# Altium integrated library TI Data Converters Digital to Analog Converter.IntLib: 1533 symbols (part 41 of 99)
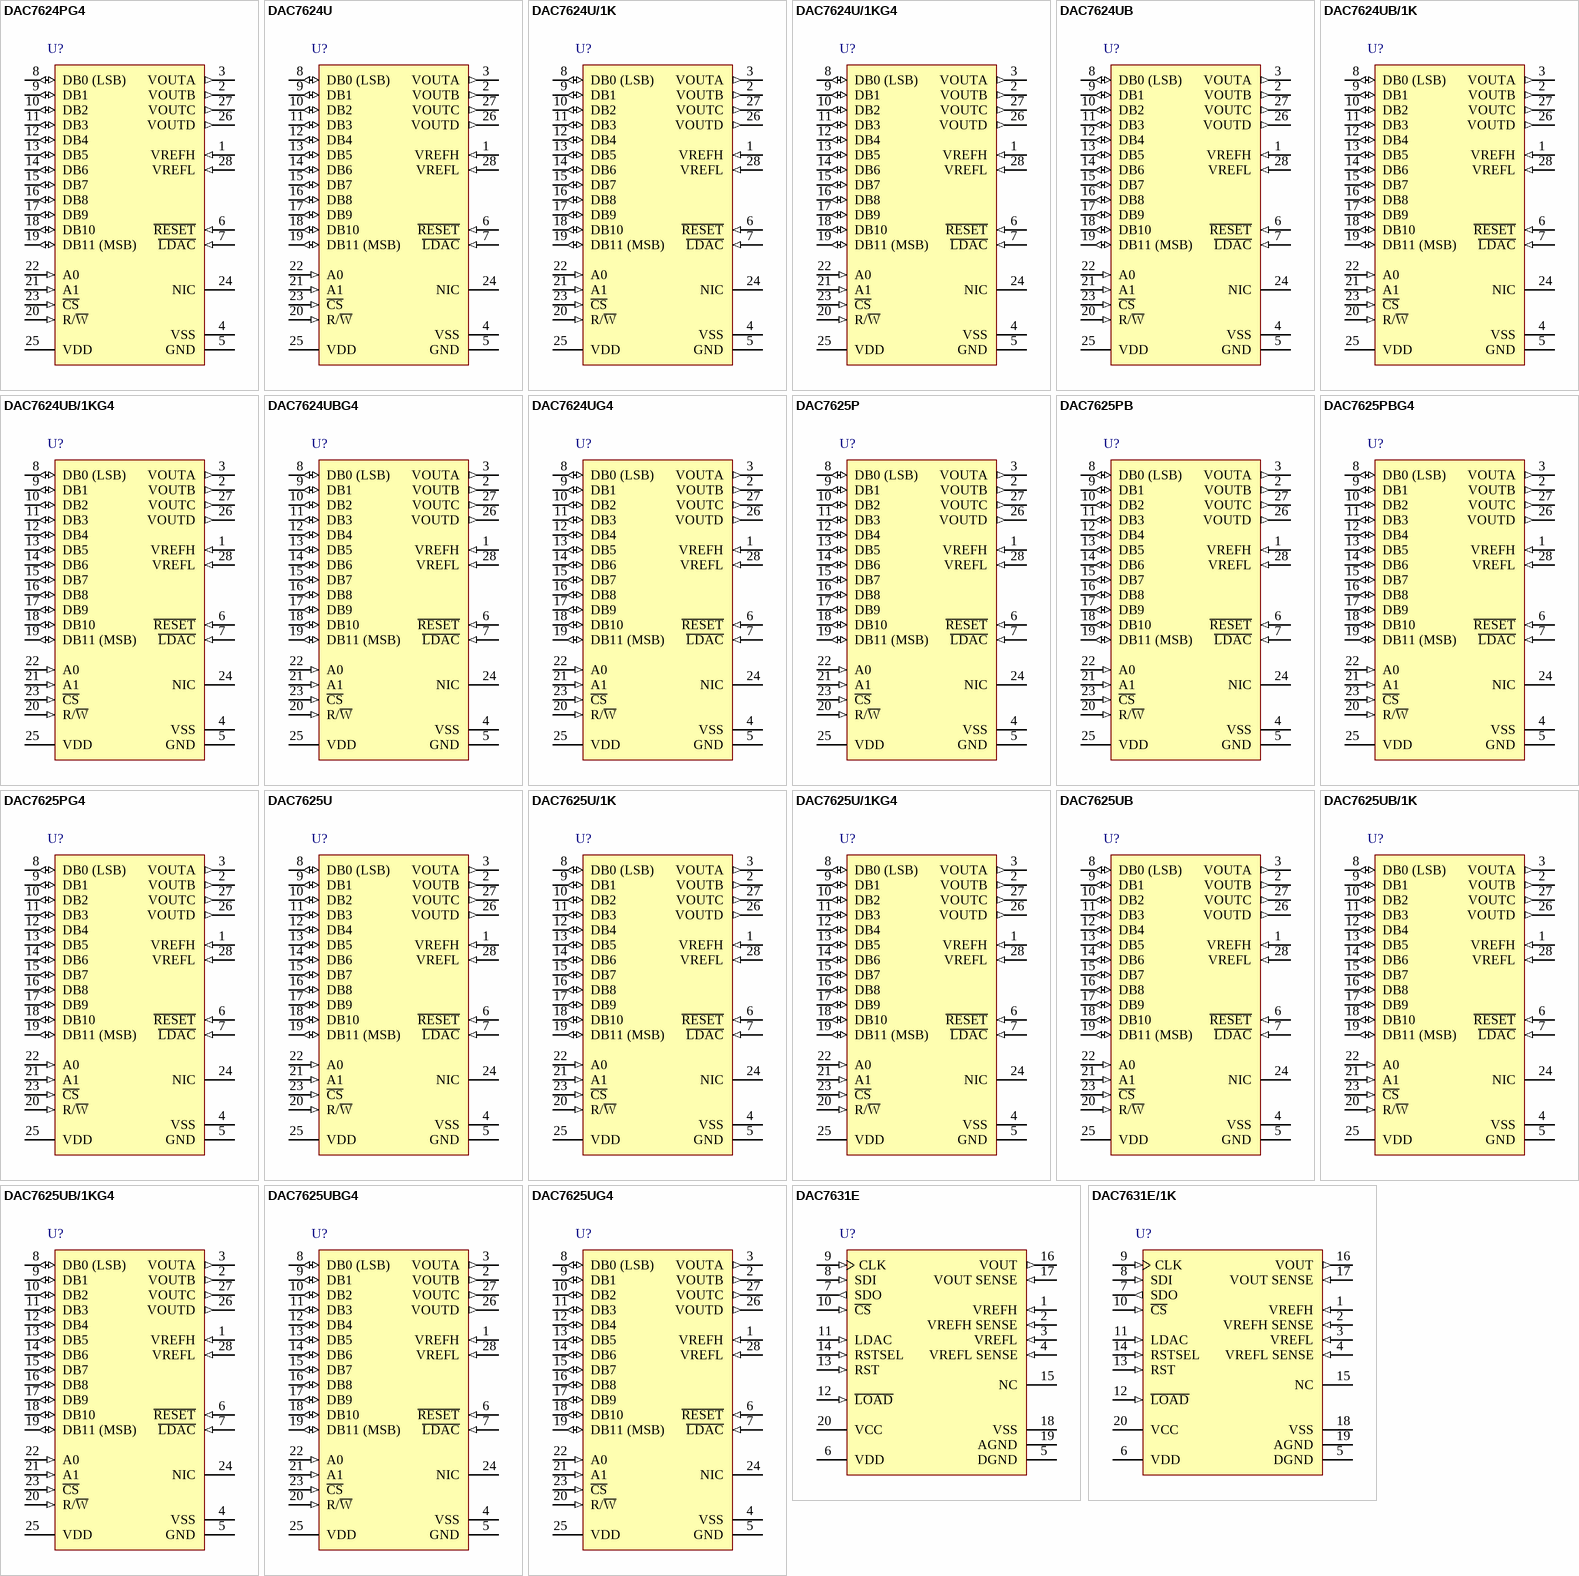
[diagram p113: symbols DAC7624PG4 to DAC7631E/1K]

## DAC7624UB/1K
designator U?
12-Bit Quad Voltage Output DAC, -40 to 85 degC, 28-pin SOIC (DW28), Green (RoHS & no Sb/Br); Manufacturer: Texas Instruments; PartNumber: DAC7624UB/1K; DAC Channels: 4; DNL(Max)(+/-LSB): 1; Interface: Parallel; Power Consumption(Typ)(mW): 15; Resolution(Bits): 12; Settling Time(us): 10; SubFamily: Precision DAC (=<10MSPS); DatasheetVersion: SBAS083; PackageVersion: 4040000-6/G, 01/2011; PackageReference: DW28; PackageDescription: 28-Pin Plastic Small Outline, Body 17.90 x 7.50 mm, Pitch 1.27 mm; Supplier 1: Digi-Key; Supplier Part Number 1: DAC7624UB/1K-ND; Supplier 2: Newark; Supplier Part Number 2: 74C9209; Supplier 3: Mouser; Supplier Part Number 3: 595-DAC7624UB/1K; Eco-Plan: Green (RoHS & no Sb/Br); INL(Max)(+/-LSB): 1; Mounting Technology: Surface Mount; Code_JEDEC: MS-013; ComponentLink1Description: Manufacturer URL; ComponentLink1URL: http://www.ti.com/; ComponentLink2Description: Datasheet; ComponentLink2URL: http://www.ti.com/general/docs/lit/getliterature.tsp?genericPartNumber=DAC7624&fileType=pdf; ComponentLink3Description: Package Specification; ComponentLink3URL: http://www.ti.com/lit/ml/mpds175a/mpds175a.pdf
footprint TI-DW28_N (SOIC, 28-Leads, Body 17.9x7.5mm, Pitch 1.27mm, IPC Medium Density)
footprint TI-DW28_L (SOIC, 28-Leads, Body 17.9x7.5mm, Pitch 1.27mm, IPC High Density)
footprint TI-DW28_M (SOIC, 28-Leads, Body 17.9x7.5mm, Pitch 1.27mm, IPC Low Density)
pins: 1 VREFH (in) "Reference Input Voltage High. Sets maximum output voltage for all DACs.", 2 VOUTB (out) "DAC B Voltage Output.", 3 VOUTA (out) "DAC A Voltage Output.", 4 VSS (power) "Negative Analog Supply Voltage, 0V or -5V.", 5 GND (power) "Ground.", 6 ~{RESET} (in) "Asynchronous Reset Input. Sets DAC and input registers to either mid-scale (800H, DAC7624) or zero-scale (000H, DAC7625) when LOW.", 7 ~{LDAC} (in) "Load DAC Input. All DAC Registers are transparent when LOW.", 8 DB0 (LSB) (io) "Data Bit 0. Least significant bit of 12-bit word.", 9 DB1 (io) "Data Bit 1", 10 DB2 (io) "Data Bit 2", 11 DB3 (io) "Data Bit 3", 12 DB4 (io) "Data Bit 4", 13 DB5 (io) "Data Bit 5", 14 DB6 (io) "Data Bit 6", 15 DB7 (io) "Data Bit 7", 16 DB8 (io) "Data Bit 8", 17 DB9 (io) "Data Bit 9", 18 DB10 (io) "Data Bit 10", 19 DB11 (MSB) (io) "Data Bit 11. Most significant bit of 12-bit word.", 20 R/~{W} (in) "Read/Write Control Input (read = HIGH, write = LOW).", 21 A1 (in) "Register/DAC Select (C or D = HIGH, A or B = LOW).", 22 A0 (in) "Register/DAC Select (B or D = HIGH, A or C = LOW).", 23 ~{CS} (in) "Chip Select Input.", 24 NIC "Not Internally Connected. Pin has no internal connection to the device.", 25 VDD (power) "Positive Analog Supply Voltage, +5V nominal.", 26 VOUTD (out) "DAC D Voltage Output.", 27 VOUTC (out) "DAC C Voltage Output.", 28 VREFL (in) "Reference Input Voltage Low. Sets minimum output voltage for all DACs."

## DAC7624UB/1KG4
designator U?
12-Bit Quad Voltage Output DAC, -40 to 85 degC, 28-pin SOIC (DW28), Green (RoHS & no Sb/Br); Manufacturer: Texas Instruments; PartNumber: DAC7624UB/1KG4; DAC Channels: 4; DNL(Max)(+/-LSB): 1; Interface: Parallel; Power Consumption(Typ)(mW): 15; Resolution(Bits): 12; Settling Time(us): 10; SubFamily: Precision DAC (=<10MSPS); DatasheetVersion: SBAS083; PackageVersion: 4040000-6/G, 01/2011; PackageReference: DW28; PackageDescription: 28-Pin Plastic Small Outline, Body 17.90 x 7.50 mm, Pitch 1.27 mm; Supplier 1: Digi-Key; Supplier Part Number 1: DAC7624UB/1KG4-ND; Supplier 2: Newark; Supplier Part Number 2: 14M1935; Supplier 3: Mouser; Supplier Part Number 3: 595-DAC7624UB/1KG4; Eco-Plan: Green (RoHS & no Sb/Br); INL(Max)(+/-LSB): 1; Mounting Technology: Surface Mount; Code_JEDEC: MS-013; ComponentLink1Description: Manufacturer URL; ComponentLink1URL: http://www.ti.com/; ComponentLink2Description: Datasheet; ComponentLink2URL: http://www.ti.com/general/docs/lit/getliterature.tsp?genericPartNumber=DAC7624&fileType=pdf; ComponentLink3Description: Package Specification; ComponentLink3URL: http://www.ti.com/lit/ml/mpds175a/mpds175a.pdf
footprint TI-DW28_N (SOIC, 28-Leads, Body 17.9x7.5mm, Pitch 1.27mm, IPC Medium Density)
footprint TI-DW28_L (SOIC, 28-Leads, Body 17.9x7.5mm, Pitch 1.27mm, IPC High Density)
footprint TI-DW28_M (SOIC, 28-Leads, Body 17.9x7.5mm, Pitch 1.27mm, IPC Low Density)
pins: 1 VREFH (in) "Reference Input Voltage High. Sets maximum output voltage for all DACs.", 2 VOUTB (out) "DAC B Voltage Output.", 3 VOUTA (out) "DAC A Voltage Output.", 4 VSS (power) "Negative Analog Supply Voltage, 0V or -5V.", 5 GND (power) "Ground.", 6 ~{RESET} (in) "Asynchronous Reset Input. Sets DAC and input registers to either mid-scale (800H, DAC7624) or zero-scale (000H, DAC7625) when LOW.", 7 ~{LDAC} (in) "Load DAC Input. All DAC Registers are transparent when LOW.", 8 DB0 (LSB) (io) "Data Bit 0. Least significant bit of 12-bit word.", 9 DB1 (io) "Data Bit 1", 10 DB2 (io) "Data Bit 2", 11 DB3 (io) "Data Bit 3", 12 DB4 (io) "Data Bit 4", 13 DB5 (io) "Data Bit 5", 14 DB6 (io) "Data Bit 6", 15 DB7 (io) "Data Bit 7", 16 DB8 (io) "Data Bit 8", 17 DB9 (io) "Data Bit 9", 18 DB10 (io) "Data Bit 10", 19 DB11 (MSB) (io) "Data Bit 11. Most significant bit of 12-bit word.", 20 R/~{W} (in) "Read/Write Control Input (read = HIGH, write = LOW).", 21 A1 (in) "Register/DAC Select (C or D = HIGH, A or B = LOW).", 22 A0 (in) "Register/DAC Select (B or D = HIGH, A or C = LOW).", 23 ~{CS} (in) "Chip Select Input.", 24 NIC "Not Internally Connected. Pin has no internal connection to the device.", 25 VDD (power) "Positive Analog Supply Voltage, +5V nominal.", 26 VOUTD (out) "DAC D Voltage Output.", 27 VOUTC (out) "DAC C Voltage Output.", 28 VREFL (in) "Reference Input Voltage Low. Sets minimum output voltage for all DACs."

## DAC7624UBG4
designator U?
12-Bit Quad Voltage Output DAC, -40 to 85 degC, 28-pin SOIC (DW28), Green (RoHS & no Sb/Br); Manufacturer: Texas Instruments; PartNumber: DAC7624UBG4; DAC Channels: 4; DNL(Max)(+/-LSB): 1; Interface: Parallel; Power Consumption(Typ)(mW): 15; Resolution(Bits): 12; Settling Time(us): 10; SubFamily: Precision DAC (=<10MSPS); DatasheetVersion: SBAS083; PackageVersion: 4040000-6/G, 01/2011; PackageReference: DW28; PackageDescription: 28-Pin Plastic Small Outline, Body 17.90 x 7.50 mm, Pitch 1.27 mm; Supplier 1: Digi-Key; Supplier Part Number 1: DAC7624UBG4-ND; Supplier 2: Newark; Supplier Part Number 2: 88K3813; Supplier 3: Mouser; Supplier Part Number 3: 595-DAC7624UBG4; Eco-Plan: Green (RoHS & no Sb/Br); INL(Max)(+/-LSB): 1; Mounting Technology: Surface Mount; Code_JEDEC: MS-013; ComponentLink1Description: Manufacturer URL; ComponentLink1URL: http://www.ti.com/; ComponentLink2Description: Datasheet; ComponentLink2URL: http://www.ti.com/general/docs/lit/getliterature.tsp?genericPartNumber=DAC7624&fileType=pdf; ComponentLink3Description: Package Specification; ComponentLink3URL: http://www.ti.com/lit/ml/mpds175a/mpds175a.pdf
footprint TI-DW28_N (SOIC, 28-Leads, Body 17.9x7.5mm, Pitch 1.27mm, IPC Medium Density)
footprint TI-DW28_L (SOIC, 28-Leads, Body 17.9x7.5mm, Pitch 1.27mm, IPC High Density)
footprint TI-DW28_M (SOIC, 28-Leads, Body 17.9x7.5mm, Pitch 1.27mm, IPC Low Density)
pins: 1 VREFH (in) "Reference Input Voltage High. Sets maximum output voltage for all DACs.", 2 VOUTB (out) "DAC B Voltage Output.", 3 VOUTA (out) "DAC A Voltage Output.", 4 VSS (power) "Negative Analog Supply Voltage, 0V or -5V.", 5 GND (power) "Ground.", 6 ~{RESET} (in) "Asynchronous Reset Input. Sets DAC and input registers to either mid-scale (800H, DAC7624) or zero-scale (000H, DAC7625) when LOW.", 7 ~{LDAC} (in) "Load DAC Input. All DAC Registers are transparent when LOW.", 8 DB0 (LSB) (io) "Data Bit 0. Least significant bit of 12-bit word.", 9 DB1 (io) "Data Bit 1", 10 DB2 (io) "Data Bit 2", 11 DB3 (io) "Data Bit 3", 12 DB4 (io) "Data Bit 4", 13 DB5 (io) "Data Bit 5", 14 DB6 (io) "Data Bit 6", 15 DB7 (io) "Data Bit 7", 16 DB8 (io) "Data Bit 8", 17 DB9 (io) "Data Bit 9", 18 DB10 (io) "Data Bit 10", 19 DB11 (MSB) (io) "Data Bit 11. Most significant bit of 12-bit word.", 20 R/~{W} (in) "Read/Write Control Input (read = HIGH, write = LOW).", 21 A1 (in) "Register/DAC Select (C or D = HIGH, A or B = LOW).", 22 A0 (in) "Register/DAC Select (B or D = HIGH, A or C = LOW).", 23 ~{CS} (in) "Chip Select Input.", 24 NIC "Not Internally Connected. Pin has no internal connection to the device.", 25 VDD (power) "Positive Analog Supply Voltage, +5V nominal.", 26 VOUTD (out) "DAC D Voltage Output.", 27 VOUTC (out) "DAC C Voltage Output.", 28 VREFL (in) "Reference Input Voltage Low. Sets minimum output voltage for all DACs."

## DAC7624UG4
designator U?
12-Bit Quad Voltage Output DAC, -40 to 85 degC, 28-pin SOIC (DW28), Green (RoHS & no Sb/Br); Manufacturer: Texas Instruments; PartNumber: DAC7624UG4; DAC Channels: 4; DNL(Max)(+/-LSB): 1; INL(Max)(+/-LSB): 2; Interface: Parallel; Power Consumption(Typ)(mW): 15; Resolution(Bits): 12; Settling Time(us): 10; SubFamily: Precision DAC (=<10MSPS); DatasheetVersion: SBAS083; PackageVersion: 4040000-6/G, 01/2011; PackageReference: DW28; PackageDescription: 28-Pin Plastic Small Outline, Body 17.90 x 7.50 mm, Pitch 1.27 mm; Supplier 1: Digi-Key; Supplier Part Number 1: DAC7624UG4-ND; Supplier 2: Newark; Supplier Part Number 2: 14M1936; Supplier 3: Mouser; Supplier Part Number 3: 595-DAC7624UG4; Eco-Plan: Green (RoHS & no Sb/Br); Mounting Technology: Surface Mount; Code_JEDEC: MS-013; ComponentLink1Description: Manufacturer URL; ComponentLink1URL: http://www.ti.com/; ComponentLink2Description: Datasheet; ComponentLink2URL: http://www.ti.com/general/docs/lit/getliterature.tsp?genericPartNumber=DAC7624&fileType=pdf; ComponentLink3Description: Package Specification; ComponentLink3URL: http://www.ti.com/lit/ml/mpds175a/mpds175a.pdf
footprint TI-DW28_N (SOIC, 28-Leads, Body 17.9x7.5mm, Pitch 1.27mm, IPC Medium Density)
footprint TI-DW28_L (SOIC, 28-Leads, Body 17.9x7.5mm, Pitch 1.27mm, IPC High Density)
footprint TI-DW28_M (SOIC, 28-Leads, Body 17.9x7.5mm, Pitch 1.27mm, IPC Low Density)
pins: 1 VREFH (in) "Reference Input Voltage High. Sets maximum output voltage for all DACs.", 2 VOUTB (out) "DAC B Voltage Output.", 3 VOUTA (out) "DAC A Voltage Output.", 4 VSS (power) "Negative Analog Supply Voltage, 0V or -5V.", 5 GND (power) "Ground.", 6 ~{RESET} (in) "Asynchronous Reset Input. Sets DAC and input registers to either mid-scale (800H, DAC7624) or zero-scale (000H, DAC7625) when LOW.", 7 ~{LDAC} (in) "Load DAC Input. All DAC Registers are transparent when LOW.", 8 DB0 (LSB) (io) "Data Bit 0. Least significant bit of 12-bit word.", 9 DB1 (io) "Data Bit 1", 10 DB2 (io) "Data Bit 2", 11 DB3 (io) "Data Bit 3", 12 DB4 (io) "Data Bit 4", 13 DB5 (io) "Data Bit 5", 14 DB6 (io) "Data Bit 6", 15 DB7 (io) "Data Bit 7", 16 DB8 (io) "Data Bit 8", 17 DB9 (io) "Data Bit 9", 18 DB10 (io) "Data Bit 10", 19 DB11 (MSB) (io) "Data Bit 11. Most significant bit of 12-bit word.", 20 R/~{W} (in) "Read/Write Control Input (read = HIGH, write = LOW).", 21 A1 (in) "Register/DAC Select (C or D = HIGH, A or B = LOW).", 22 A0 (in) "Register/DAC Select (B or D = HIGH, A or C = LOW).", 23 ~{CS} (in) "Chip Select Input.", 24 NIC "Not Internally Connected. Pin has no internal connection to the device.", 25 VDD (power) "Positive Analog Supply Voltage, +5V nominal.", 26 VOUTD (out) "DAC D Voltage Output.", 27 VOUTC (out) "DAC C Voltage Output.", 28 VREFL (in) "Reference Input Voltage Low. Sets minimum output voltage for all DACs."

## DAC7625P
designator U?
12-Bit Quad Voltage Output DAC, -40 to 85 degC, 28-pin DIP (NTD28), Green (RoHS & no Sb/Br); Manufacturer: Texas Instruments; PartNumber: DAC7625P; DAC Channels: 4; DNL(Max)(+/-LSB): 1; INL(Max)(+/-LSB): 2; Interface: Parallel; Power Consumption(Typ)(mW): 15; Resolution(Bits): 12; Settling Time(us): 10; SubFamily: Precision DAC (=<10MSPS); DatasheetVersion: SBAS083; PackageVersion: 4202496/A, 03/2001; PackageReference: NTD28; PackageDescription: 28-Pin Plastic Dual-In-Line, Body 37.4 x 13.525 mm, Pitch 2.54 mm; Supplier 1: Digi-Key; Supplier Part Number 1: DAC7625P-ND; Supplier 2: Farnell; Supplier Part Number 2: 1214358; Supplier 3: Newark; Supplier Part Number 3: 01M7298; Supplier 4: Mouser; Supplier Part Number 4: 595-DAC7625P; Eco-Plan: Green (RoHS & no Sb/Br); Mounting Technology: Through Hole; Code_JEDEC: MS-011-AB; ComponentLink1Description: Manufacturer URL; ComponentLink1URL: http://www.ti.com/; ComponentLink2Description: Datasheet; ComponentLink2URL: http://www.ti.com/general/docs/lit/getliterature.tsp?genericPartNumber=DAC7625&fileType=pdf; ComponentLink3Description: Package Specification; ComponentLink3URL: http://www.ti.com/litv/pdf/mpdi056
footprint TI-NTD28 (DIP, 28-Leads, Body 37.4x13.525mm, Pitch 2.54mm)
pins: 1 VREFH (in) "Reference Input Voltage High. Sets maximum output voltage for all DACs.", 2 VOUTB (out) "DAC B Voltage Output.", 3 VOUTA (out) "DAC A Voltage Output.", 4 VSS (power) "Negative Analog Supply Voltage, 0V or -5V.", 5 GND (power) "Ground.", 6 ~{RESET} (in) "Asynchronous Reset Input. Sets DAC and input registers to either mid-scale (800H, DAC7624) or zero-scale (000H, DAC7625) when LOW.", 7 ~{LDAC} (in) "Load DAC Input. All DAC Registers are transparent when LOW.", 8 DB0 (LSB) (io) "Data Bit 0. Least significant bit of 12-bit word.", 9 DB1 (io) "Data Bit 1", 10 DB2 (io) "Data Bit 2", 11 DB3 (io) "Data Bit 3", 12 DB4 (io) "Data Bit 4", 13 DB5 (io) "Data Bit 5", 14 DB6 (io) "Data Bit 6", 15 DB7 (io) "Data Bit 7", 16 DB8 (io) "Data Bit 8", 17 DB9 (io) "Data Bit 9", 18 DB10 (io) "Data Bit 10", 19 DB11 (MSB) (io) "Data Bit 11. Most significant bit of 12-bit word.", 20 R/~{W} (in) "Read/Write Control Input (read = HIGH, write = LOW).", 21 A1 (in) "Register/DAC Select (C or D = HIGH, A or B = LOW).", 22 A0 (in) "Register/DAC Select (B or D = HIGH, A or C = LOW).", 23 ~{CS} (in) "Chip Select Input.", 24 NIC "Not Internally Connected. Pin has no internal connection to the device.", 25 VDD (power) "Positive Analog Supply Voltage, +5V nominal.", 26 VOUTD (out) "DAC D Voltage Output.", 27 VOUTC (out) "DAC C Voltage Output.", 28 VREFL (in) "Reference Input Voltage Low. Sets minimum output voltage for all DACs."

## DAC7625PB
designator U?
12-Bit Quad Voltage Output DAC, -40 to 85 degC, 28-pin DIP (NTD28), Green (RoHS & no Sb/Br); Manufacturer: Texas Instruments; PartNumber: DAC7625PB; DAC Channels: 4; DNL(Max)(+/-LSB): 1; Interface: Parallel; Power Consumption(Typ)(mW): 15; Resolution(Bits): 12; Settling Time(us): 10; SubFamily: Precision DAC (=<10MSPS); DatasheetVersion: SBAS083; PackageVersion: 4202496/A, 03/2001; PackageReference: NTD28; PackageDescription: 28-Pin Plastic Dual-In-Line, Body 37.4 x 13.525 mm, Pitch 2.54 mm; Supplier 1: Digi-Key; Supplier Part Number 1: DAC7625PB-ND; Supplier 2: Mouser; Supplier Part Number 2: 595-DAC7625PB; Eco-Plan: Green (RoHS & no Sb/Br); INL(Max)(+/-LSB): 1; Mounting Technology: Through Hole; Code_JEDEC: MS-011-AB; ComponentLink1Description: Manufacturer URL; ComponentLink1URL: http://www.ti.com/; ComponentLink2Description: Datasheet; ComponentLink2URL: http://www.ti.com/general/docs/lit/getliterature.tsp?genericPartNumber=DAC7625&fileType=pdf; ComponentLink3Description: Package Specification; ComponentLink3URL: http://www.ti.com/litv/pdf/mpdi056
footprint TI-NTD28 (DIP, 28-Leads, Body 37.4x13.525mm, Pitch 2.54mm)
pins: 1 VREFH (in) "Reference Input Voltage High. Sets maximum output voltage for all DACs.", 2 VOUTB (out) "DAC B Voltage Output.", 3 VOUTA (out) "DAC A Voltage Output.", 4 VSS (power) "Negative Analog Supply Voltage, 0V or -5V.", 5 GND (power) "Ground.", 6 ~{RESET} (in) "Asynchronous Reset Input. Sets DAC and input registers to either mid-scale (800H, DAC7624) or zero-scale (000H, DAC7625) when LOW.", 7 ~{LDAC} (in) "Load DAC Input. All DAC Registers are transparent when LOW.", 8 DB0 (LSB) (io) "Data Bit 0. Least significant bit of 12-bit word.", 9 DB1 (io) "Data Bit 1", 10 DB2 (io) "Data Bit 2", 11 DB3 (io) "Data Bit 3", 12 DB4 (io) "Data Bit 4", 13 DB5 (io) "Data Bit 5", 14 DB6 (io) "Data Bit 6", 15 DB7 (io) "Data Bit 7", 16 DB8 (io) "Data Bit 8", 17 DB9 (io) "Data Bit 9", 18 DB10 (io) "Data Bit 10", 19 DB11 (MSB) (io) "Data Bit 11. Most significant bit of 12-bit word.", 20 R/~{W} (in) "Read/Write Control Input (read = HIGH, write = LOW).", 21 A1 (in) "Register/DAC Select (C or D = HIGH, A or B = LOW).", 22 A0 (in) "Register/DAC Select (B or D = HIGH, A or C = LOW).", 23 ~{CS} (in) "Chip Select Input.", 24 NIC "Not Internally Connected. Pin has no internal connection to the device.", 25 VDD (power) "Positive Analog Supply Voltage, +5V nominal.", 26 VOUTD (out) "DAC D Voltage Output.", 27 VOUTC (out) "DAC C Voltage Output.", 28 VREFL (in) "Reference Input Voltage Low. Sets minimum output voltage for all DACs."

## DAC7625PBG4
designator U?
12-Bit Quad Voltage Output DAC, -40 to 85 degC, 28-pin DIP (NTD28), Green (RoHS & no Sb/Br); Manufacturer: Texas Instruments; PartNumber: DAC7625PBG4; DAC Channels: 4; DNL(Max)(+/-LSB): 1; Interface: Parallel; Power Consumption(Typ)(mW): 15; Resolution(Bits): 12; Settling Time(us): 10; SubFamily: Precision DAC (=<10MSPS); DatasheetVersion: SBAS083; PackageVersion: 4202496/A, 03/2001; PackageReference: NTD28; PackageDescription: 28-Pin Plastic Dual-In-Line, Body 37.4 x 13.525 mm, Pitch 2.54 mm; Supplier 1: Digi-Key; Supplier Part Number 1: DAC7625PBG4-ND; Supplier 2: Newark; Supplier Part Number 2: 60M1639; Supplier 3: Mouser; Supplier Part Number 3: 595-DAC7625PBG4; Eco-Plan: Green (RoHS & no Sb/Br); INL(Max)(+/-LSB): 1; Mounting Technology: Through Hole; Code_JEDEC: MS-011-AB; ComponentLink1Description: Manufacturer URL; ComponentLink1URL: http://www.ti.com/; ComponentLink2Description: Datasheet; ComponentLink2URL: http://www.ti.com/general/docs/lit/getliterature.tsp?genericPartNumber=DAC7625&fileType=pdf; ComponentLink3Description: Package Specification; ComponentLink3URL: http://www.ti.com/litv/pdf/mpdi056
footprint TI-NTD28 (DIP, 28-Leads, Body 37.4x13.525mm, Pitch 2.54mm)
pins: 1 VREFH (in) "Reference Input Voltage High. Sets maximum output voltage for all DACs.", 2 VOUTB (out) "DAC B Voltage Output.", 3 VOUTA (out) "DAC A Voltage Output.", 4 VSS (power) "Negative Analog Supply Voltage, 0V or -5V.", 5 GND (power) "Ground.", 6 ~{RESET} (in) "Asynchronous Reset Input. Sets DAC and input registers to either mid-scale (800H, DAC7624) or zero-scale (000H, DAC7625) when LOW.", 7 ~{LDAC} (in) "Load DAC Input. All DAC Registers are transparent when LOW.", 8 DB0 (LSB) (io) "Data Bit 0. Least significant bit of 12-bit word.", 9 DB1 (io) "Data Bit 1", 10 DB2 (io) "Data Bit 2", 11 DB3 (io) "Data Bit 3", 12 DB4 (io) "Data Bit 4", 13 DB5 (io) "Data Bit 5", 14 DB6 (io) "Data Bit 6", 15 DB7 (io) "Data Bit 7", 16 DB8 (io) "Data Bit 8", 17 DB9 (io) "Data Bit 9", 18 DB10 (io) "Data Bit 10", 19 DB11 (MSB) (io) "Data Bit 11. Most significant bit of 12-bit word.", 20 R/~{W} (in) "Read/Write Control Input (read = HIGH, write = LOW).", 21 A1 (in) "Register/DAC Select (C or D = HIGH, A or B = LOW).", 22 A0 (in) "Register/DAC Select (B or D = HIGH, A or C = LOW).", 23 ~{CS} (in) "Chip Select Input.", 24 NIC "Not Internally Connected. Pin has no internal connection to the device.", 25 VDD (power) "Positive Analog Supply Voltage, +5V nominal.", 26 VOUTD (out) "DAC D Voltage Output.", 27 VOUTC (out) "DAC C Voltage Output.", 28 VREFL (in) "Reference Input Voltage Low. Sets minimum output voltage for all DACs."

## DAC7625PG4
designator U?
12-Bit Quad Voltage Output DAC, -40 to 85 degC, 28-pin DIP (NTD28), Green (RoHS & no Sb/Br); Manufacturer: Texas Instruments; PartNumber: DAC7625PG4; DAC Channels: 4; DNL(Max)(+/-LSB): 1; INL(Max)(+/-LSB): 2; Interface: Parallel; Power Consumption(Typ)(mW): 15; Resolution(Bits): 12; Settling Time(us): 10; SubFamily: Precision DAC (=<10MSPS); DatasheetVersion: SBAS083; PackageVersion: 4202496/A, 03/2001; PackageReference: NTD28; PackageDescription: 28-Pin Plastic Dual-In-Line, Body 37.4 x 13.525 mm, Pitch 2.54 mm; Supplier 1: Digi-Key; Supplier Part Number 1: DAC7625PG4-ND; Supplier 2: Mouser; Supplier Part Number 2: 595-DAC7625PG4; Eco-Plan: Green (RoHS & no Sb/Br); Mounting Technology: Through Hole; Code_JEDEC: MS-011-AB; ComponentLink1Description: Manufacturer URL; ComponentLink1URL: http://www.ti.com/; ComponentLink2Description: Datasheet; ComponentLink2URL: http://www.ti.com/general/docs/lit/getliterature.tsp?genericPartNumber=DAC7625&fileType=pdf; ComponentLink3Description: Package Specification; ComponentLink3URL: http://www.ti.com/litv/pdf/mpdi056
footprint TI-NTD28 (DIP, 28-Leads, Body 37.4x13.525mm, Pitch 2.54mm)
pins: 1 VREFH (in) "Reference Input Voltage High. Sets maximum output voltage for all DACs.", 2 VOUTB (out) "DAC B Voltage Output.", 3 VOUTA (out) "DAC A Voltage Output.", 4 VSS (power) "Negative Analog Supply Voltage, 0V or -5V.", 5 GND (power) "Ground.", 6 ~{RESET} (in) "Asynchronous Reset Input. Sets DAC and input registers to either mid-scale (800H, DAC7624) or zero-scale (000H, DAC7625) when LOW.", 7 ~{LDAC} (in) "Load DAC Input. All DAC Registers are transparent when LOW.", 8 DB0 (LSB) (io) "Data Bit 0. Least significant bit of 12-bit word.", 9 DB1 (io) "Data Bit 1", 10 DB2 (io) "Data Bit 2", 11 DB3 (io) "Data Bit 3", 12 DB4 (io) "Data Bit 4", 13 DB5 (io) "Data Bit 5", 14 DB6 (io) "Data Bit 6", 15 DB7 (io) "Data Bit 7", 16 DB8 (io) "Data Bit 8", 17 DB9 (io) "Data Bit 9", 18 DB10 (io) "Data Bit 10", 19 DB11 (MSB) (io) "Data Bit 11. Most significant bit of 12-bit word.", 20 R/~{W} (in) "Read/Write Control Input (read = HIGH, write = LOW).", 21 A1 (in) "Register/DAC Select (C or D = HIGH, A or B = LOW).", 22 A0 (in) "Register/DAC Select (B or D = HIGH, A or C = LOW).", 23 ~{CS} (in) "Chip Select Input.", 24 NIC "Not Internally Connected. Pin has no internal connection to the device.", 25 VDD (power) "Positive Analog Supply Voltage, +5V nominal.", 26 VOUTD (out) "DAC D Voltage Output.", 27 VOUTC (out) "DAC C Voltage Output.", 28 VREFL (in) "Reference Input Voltage Low. Sets minimum output voltage for all DACs."

## DAC7625U
designator U?
12-Bit Quad Voltage Output DAC, -40 to 85 degC, 28-pin SOIC (DW28), Green (RoHS & no Sb/Br); Manufacturer: Texas Instruments; PartNumber: DAC7625U; DAC Channels: 4; DNL(Max)(+/-LSB): 1; INL(Max)(+/-LSB): 2; Interface: Parallel; Power Consumption(Typ)(mW): 15; Resolution(Bits): 12; Settling Time(us): 10; SubFamily: Precision DAC (=<10MSPS); DatasheetVersion: SBAS083; PackageVersion: 4040000-6/G, 01/2011; PackageReference: DW28; PackageDescription: 28-Pin Plastic Small Outline, Body 17.90 x 7.50 mm, Pitch 1.27 mm; Supplier 1: Digi-Key; Supplier Part Number 1: DAC7625U-ND; Supplier 2: Farnell; Supplier Part Number 2: 1212273; Supplier 3: Newark; Supplier Part Number 3: 01M7299; Supplier 4: Newark; Supplier Part Number 4: 35C1641; Supplier 5: Mouser; Supplier Part Number 5: 595-DAC7625U; Eco-Plan: Green (RoHS & no Sb/Br); Mounting Technology: Surface Mount; Code_JEDEC: MS-013; ComponentLink1Description: Manufacturer URL; ComponentLink1URL: http://www.ti.com/; ComponentLink2Description: Datasheet; ComponentLink2URL: http://www.ti.com/general/docs/lit/getliterature.tsp?genericPartNumber=DAC7625&fileType=pdf; ComponentLink3Description: Package Specification; ComponentLink3URL: http://www.ti.com/lit/ml/mpds175a/mpds175a.pdf
footprint TI-DW28_N (SOIC, 28-Leads, Body 17.9x7.5mm, Pitch 1.27mm, IPC Medium Density)
footprint TI-DW28_L (SOIC, 28-Leads, Body 17.9x7.5mm, Pitch 1.27mm, IPC High Density)
footprint TI-DW28_M (SOIC, 28-Leads, Body 17.9x7.5mm, Pitch 1.27mm, IPC Low Density)
pins: 1 VREFH (in) "Reference Input Voltage High. Sets maximum output voltage for all DACs.", 2 VOUTB (out) "DAC B Voltage Output.", 3 VOUTA (out) "DAC A Voltage Output.", 4 VSS (power) "Negative Analog Supply Voltage, 0V or -5V.", 5 GND (power) "Ground.", 6 ~{RESET} (in) "Asynchronous Reset Input. Sets DAC and input registers to either mid-scale (800H, DAC7624) or zero-scale (000H, DAC7625) when LOW.", 7 ~{LDAC} (in) "Load DAC Input. All DAC Registers are transparent when LOW.", 8 DB0 (LSB) (io) "Data Bit 0. Least significant bit of 12-bit word.", 9 DB1 (io) "Data Bit 1", 10 DB2 (io) "Data Bit 2", 11 DB3 (io) "Data Bit 3", 12 DB4 (io) "Data Bit 4", 13 DB5 (io) "Data Bit 5", 14 DB6 (io) "Data Bit 6", 15 DB7 (io) "Data Bit 7", 16 DB8 (io) "Data Bit 8", 17 DB9 (io) "Data Bit 9", 18 DB10 (io) "Data Bit 10", 19 DB11 (MSB) (io) "Data Bit 11. Most significant bit of 12-bit word.", 20 R/~{W} (in) "Read/Write Control Input (read = HIGH, write = LOW).", 21 A1 (in) "Register/DAC Select (C or D = HIGH, A or B = LOW).", 22 A0 (in) "Register/DAC Select (B or D = HIGH, A or C = LOW).", 23 ~{CS} (in) "Chip Select Input.", 24 NIC "Not Internally Connected. Pin has no internal connection to the device.", 25 VDD (power) "Positive Analog Supply Voltage, +5V nominal.", 26 VOUTD (out) "DAC D Voltage Output.", 27 VOUTC (out) "DAC C Voltage Output.", 28 VREFL (in) "Reference Input Voltage Low. Sets minimum output voltage for all DACs."

## DAC7625U/1K
designator U?
12-Bit Quad Voltage Output DAC, -40 to 85 degC, 28-pin SOIC (DW28), Green (RoHS & no Sb/Br); Manufacturer: Texas Instruments; PartNumber: DAC7625U/1K; DAC Channels: 4; DNL(Max)(+/-LSB): 1; INL(Max)(+/-LSB): 2; Interface: Parallel; Power Consumption(Typ)(mW): 15; Resolution(Bits): 12; Settling Time(us): 10; SubFamily: Precision DAC (=<10MSPS); DatasheetVersion: SBAS083; PackageVersion: 4040000-6/G, 01/2011; PackageReference: DW28; PackageDescription: 28-Pin Plastic Small Outline, Body 17.90 x 7.50 mm, Pitch 1.27 mm; Supplier 1: Digi-Key; Supplier Part Number 1: DAC7625U/1K-ND; Supplier 2: Newark; Supplier Part Number 2: 74C9211; Supplier 3: Mouser; Supplier Part Number 3: 595-DAC7625U/1K; Eco-Plan: Green (RoHS & no Sb/Br); Mounting Technology: Surface Mount; Code_JEDEC: MS-013; ComponentLink1Description: Manufacturer URL; ComponentLink1URL: http://www.ti.com/; ComponentLink2Description: Datasheet; ComponentLink2URL: http://www.ti.com/general/docs/lit/getliterature.tsp?genericPartNumber=DAC7625&fileType=pdf; ComponentLink3Description: Package Specification; ComponentLink3URL: http://www.ti.com/lit/ml/mpds175a/mpds175a.pdf
footprint TI-DW28_N (SOIC, 28-Leads, Body 17.9x7.5mm, Pitch 1.27mm, IPC Medium Density)
footprint TI-DW28_L (SOIC, 28-Leads, Body 17.9x7.5mm, Pitch 1.27mm, IPC High Density)
footprint TI-DW28_M (SOIC, 28-Leads, Body 17.9x7.5mm, Pitch 1.27mm, IPC Low Density)
pins: 1 VREFH (in) "Reference Input Voltage High. Sets maximum output voltage for all DACs.", 2 VOUTB (out) "DAC B Voltage Output.", 3 VOUTA (out) "DAC A Voltage Output.", 4 VSS (power) "Negative Analog Supply Voltage, 0V or -5V.", 5 GND (power) "Ground.", 6 ~{RESET} (in) "Asynchronous Reset Input. Sets DAC and input registers to either mid-scale (800H, DAC7624) or zero-scale (000H, DAC7625) when LOW.", 7 ~{LDAC} (in) "Load DAC Input. All DAC Registers are transparent when LOW.", 8 DB0 (LSB) (io) "Data Bit 0. Least significant bit of 12-bit word.", 9 DB1 (io) "Data Bit 1", 10 DB2 (io) "Data Bit 2", 11 DB3 (io) "Data Bit 3", 12 DB4 (io) "Data Bit 4", 13 DB5 (io) "Data Bit 5", 14 DB6 (io) "Data Bit 6", 15 DB7 (io) "Data Bit 7", 16 DB8 (io) "Data Bit 8", 17 DB9 (io) "Data Bit 9", 18 DB10 (io) "Data Bit 10", 19 DB11 (MSB) (io) "Data Bit 11. Most significant bit of 12-bit word.", 20 R/~{W} (in) "Read/Write Control Input (read = HIGH, write = LOW).", 21 A1 (in) "Register/DAC Select (C or D = HIGH, A or B = LOW).", 22 A0 (in) "Register/DAC Select (B or D = HIGH, A or C = LOW).", 23 ~{CS} (in) "Chip Select Input.", 24 NIC "Not Internally Connected. Pin has no internal connection to the device.", 25 VDD (power) "Positive Analog Supply Voltage, +5V nominal.", 26 VOUTD (out) "DAC D Voltage Output.", 27 VOUTC (out) "DAC C Voltage Output.", 28 VREFL (in) "Reference Input Voltage Low. Sets minimum output voltage for all DACs."

## DAC7625U/1KG4
designator U?
12-Bit Quad Voltage Output DAC, -40 to 85 degC, 28-pin SOIC (DW28), Green (RoHS & no Sb/Br); Manufacturer: Texas Instruments; PartNumber: DAC7625U/1KG4; DAC Channels: 4; DNL(Max)(+/-LSB): 1; INL(Max)(+/-LSB): 2; Interface: Parallel; Power Consumption(Typ)(mW): 15; Resolution(Bits): 12; Settling Time(us): 10; SubFamily: Precision DAC (=<10MSPS); DatasheetVersion: SBAS083; PackageVersion: 4040000-6/G, 01/2011; PackageReference: DW28; PackageDescription: 28-Pin Plastic Small Outline, Body 17.90 x 7.50 mm, Pitch 1.27 mm; Supplier 1: Digi-Key; Supplier Part Number 1: DAC7625U/1KG4-ND; Supplier 2: Mouser; Supplier Part Number 2: 595-DAC7625U/1KG4; Eco-Plan: Green (RoHS & no Sb/Br); Mounting Technology: Surface Mount; Code_JEDEC: MS-013; ComponentLink1Description: Manufacturer URL; ComponentLink1URL: http://www.ti.com/; ComponentLink2Description: Datasheet; ComponentLink2URL: http://www.ti.com/general/docs/lit/getliterature.tsp?genericPartNumber=DAC7625&fileType=pdf; ComponentLink3Description: Package Specification; ComponentLink3URL: http://www.ti.com/lit/ml/mpds175a/mpds175a.pdf
footprint TI-DW28_N (SOIC, 28-Leads, Body 17.9x7.5mm, Pitch 1.27mm, IPC Medium Density)
footprint TI-DW28_L (SOIC, 28-Leads, Body 17.9x7.5mm, Pitch 1.27mm, IPC High Density)
footprint TI-DW28_M (SOIC, 28-Leads, Body 17.9x7.5mm, Pitch 1.27mm, IPC Low Density)
pins: 1 VREFH (in) "Reference Input Voltage High. Sets maximum output voltage for all DACs.", 2 VOUTB (out) "DAC B Voltage Output.", 3 VOUTA (out) "DAC A Voltage Output.", 4 VSS (power) "Negative Analog Supply Voltage, 0V or -5V.", 5 GND (power) "Ground.", 6 ~{RESET} (in) "Asynchronous Reset Input. Sets DAC and input registers to either mid-scale (800H, DAC7624) or zero-scale (000H, DAC7625) when LOW.", 7 ~{LDAC} (in) "Load DAC Input. All DAC Registers are transparent when LOW.", 8 DB0 (LSB) (io) "Data Bit 0. Least significant bit of 12-bit word.", 9 DB1 (io) "Data Bit 1", 10 DB2 (io) "Data Bit 2", 11 DB3 (io) "Data Bit 3", 12 DB4 (io) "Data Bit 4", 13 DB5 (io) "Data Bit 5", 14 DB6 (io) "Data Bit 6", 15 DB7 (io) "Data Bit 7", 16 DB8 (io) "Data Bit 8", 17 DB9 (io) "Data Bit 9", 18 DB10 (io) "Data Bit 10", 19 DB11 (MSB) (io) "Data Bit 11. Most significant bit of 12-bit word.", 20 R/~{W} (in) "Read/Write Control Input (read = HIGH, write = LOW).", 21 A1 (in) "Register/DAC Select (C or D = HIGH, A or B = LOW).", 22 A0 (in) "Register/DAC Select (B or D = HIGH, A or C = LOW).", 23 ~{CS} (in) "Chip Select Input.", 24 NIC "Not Internally Connected. Pin has no internal connection to the device.", 25 VDD (power) "Positive Analog Supply Voltage, +5V nominal.", 26 VOUTD (out) "DAC D Voltage Output.", 27 VOUTC (out) "DAC C Voltage Output.", 28 VREFL (in) "Reference Input Voltage Low. Sets minimum output voltage for all DACs."

## DAC7625UB
designator U?
12-Bit Quad Voltage Output DAC, -40 to 85 degC, 28-pin SOIC (DW28), Green (RoHS & no Sb/Br); Manufacturer: Texas Instruments; PartNumber: DAC7625UB; DAC Channels: 4; DNL(Max)(+/-LSB): 1; Interface: Parallel; Power Consumption(Typ)(mW): 15; Resolution(Bits): 12; Settling Time(us): 10; SubFamily: Precision DAC (=<10MSPS); DatasheetVersion: SBAS083; PackageVersion: 4040000-6/G, 01/2011; PackageReference: DW28; PackageDescription: 28-Pin Plastic Small Outline, Body 17.90 x 7.50 mm, Pitch 1.27 mm; Supplier 1: Digi-Key; Supplier Part Number 1: DAC7625UB-ND; Supplier 2: Newark; Supplier Part Number 2: 35C1642; Supplier 3: Mouser; Supplier Part Number 3: 595-DAC7625UB; Eco-Plan: Green (RoHS & no Sb/Br); INL(Max)(+/-LSB): 1; Mounting Technology: Surface Mount; Code_JEDEC: MS-013; ComponentLink1Description: Manufacturer URL; ComponentLink1URL: http://www.ti.com/; ComponentLink2Description: Datasheet; ComponentLink2URL: http://www.ti.com/general/docs/lit/getliterature.tsp?genericPartNumber=DAC7625&fileType=pdf; ComponentLink3Description: Package Specification; ComponentLink3URL: http://www.ti.com/lit/ml/mpds175a/mpds175a.pdf
footprint TI-DW28_N (SOIC, 28-Leads, Body 17.9x7.5mm, Pitch 1.27mm, IPC Medium Density)
footprint TI-DW28_L (SOIC, 28-Leads, Body 17.9x7.5mm, Pitch 1.27mm, IPC High Density)
footprint TI-DW28_M (SOIC, 28-Leads, Body 17.9x7.5mm, Pitch 1.27mm, IPC Low Density)
pins: 1 VREFH (in) "Reference Input Voltage High. Sets maximum output voltage for all DACs.", 2 VOUTB (out) "DAC B Voltage Output.", 3 VOUTA (out) "DAC A Voltage Output.", 4 VSS (power) "Negative Analog Supply Voltage, 0V or -5V.", 5 GND (power) "Ground.", 6 ~{RESET} (in) "Asynchronous Reset Input. Sets DAC and input registers to either mid-scale (800H, DAC7624) or zero-scale (000H, DAC7625) when LOW.", 7 ~{LDAC} (in) "Load DAC Input. All DAC Registers are transparent when LOW.", 8 DB0 (LSB) (io) "Data Bit 0. Least significant bit of 12-bit word.", 9 DB1 (io) "Data Bit 1", 10 DB2 (io) "Data Bit 2", 11 DB3 (io) "Data Bit 3", 12 DB4 (io) "Data Bit 4", 13 DB5 (io) "Data Bit 5", 14 DB6 (io) "Data Bit 6", 15 DB7 (io) "Data Bit 7", 16 DB8 (io) "Data Bit 8", 17 DB9 (io) "Data Bit 9", 18 DB10 (io) "Data Bit 10", 19 DB11 (MSB) (io) "Data Bit 11. Most significant bit of 12-bit word.", 20 R/~{W} (in) "Read/Write Control Input (read = HIGH, write = LOW).", 21 A1 (in) "Register/DAC Select (C or D = HIGH, A or B = LOW).", 22 A0 (in) "Register/DAC Select (B or D = HIGH, A or C = LOW).", 23 ~{CS} (in) "Chip Select Input.", 24 NIC "Not Internally Connected. Pin has no internal connection to the device.", 25 VDD (power) "Positive Analog Supply Voltage, +5V nominal.", 26 VOUTD (out) "DAC D Voltage Output.", 27 VOUTC (out) "DAC C Voltage Output.", 28 VREFL (in) "Reference Input Voltage Low. Sets minimum output voltage for all DACs."

## DAC7625UB/1K
designator U?
12-Bit Quad Voltage Output DAC, -40 to 85 degC, 28-pin SOIC (DW28), Green (RoHS & no Sb/Br); Manufacturer: Texas Instruments; PartNumber: DAC7625UB/1K; DAC Channels: 4; DNL(Max)(+/-LSB): 1; Interface: Parallel; Power Consumption(Typ)(mW): 15; Resolution(Bits): 12; Settling Time(us): 10; SubFamily: Precision DAC (=<10MSPS); DatasheetVersion: SBAS083; PackageVersion: 4040000-6/G, 01/2011; PackageReference: DW28; PackageDescription: 28-Pin Plastic Small Outline, Body 17.90 x 7.50 mm, Pitch 1.27 mm; Supplier 1: Digi-Key; Supplier Part Number 1: DAC7625UB/1K-ND; Supplier 2: Mouser; Supplier Part Number 2: 595-DAC7625UB/1K; Eco-Plan: Green (RoHS & no Sb/Br); INL(Max)(+/-LSB): 1; Mounting Technology: Surface Mount; Code_JEDEC: MS-013; ComponentLink1Description: Manufacturer URL; ComponentLink1URL: http://www.ti.com/; ComponentLink2Description: Datasheet; ComponentLink2URL: http://www.ti.com/general/docs/lit/getliterature.tsp?genericPartNumber=DAC7625&fileType=pdf; ComponentLink3Description: Package Specification; ComponentLink3URL: http://www.ti.com/lit/ml/mpds175a/mpds175a.pdf
footprint TI-DW28_N (SOIC, 28-Leads, Body 17.9x7.5mm, Pitch 1.27mm, IPC Medium Density)
footprint TI-DW28_L (SOIC, 28-Leads, Body 17.9x7.5mm, Pitch 1.27mm, IPC High Density)
footprint TI-DW28_M (SOIC, 28-Leads, Body 17.9x7.5mm, Pitch 1.27mm, IPC Low Density)
pins: 1 VREFH (in) "Reference Input Voltage High. Sets maximum output voltage for all DACs.", 2 VOUTB (out) "DAC B Voltage Output.", 3 VOUTA (out) "DAC A Voltage Output.", 4 VSS (power) "Negative Analog Supply Voltage, 0V or -5V.", 5 GND (power) "Ground.", 6 ~{RESET} (in) "Asynchronous Reset Input. Sets DAC and input registers to either mid-scale (800H, DAC7624) or zero-scale (000H, DAC7625) when LOW.", 7 ~{LDAC} (in) "Load DAC Input. All DAC Registers are transparent when LOW.", 8 DB0 (LSB) (io) "Data Bit 0. Least significant bit of 12-bit word.", 9 DB1 (io) "Data Bit 1", 10 DB2 (io) "Data Bit 2", 11 DB3 (io) "Data Bit 3", 12 DB4 (io) "Data Bit 4", 13 DB5 (io) "Data Bit 5", 14 DB6 (io) "Data Bit 6", 15 DB7 (io) "Data Bit 7", 16 DB8 (io) "Data Bit 8", 17 DB9 (io) "Data Bit 9", 18 DB10 (io) "Data Bit 10", 19 DB11 (MSB) (io) "Data Bit 11. Most significant bit of 12-bit word.", 20 R/~{W} (in) "Read/Write Control Input (read = HIGH, write = LOW).", 21 A1 (in) "Register/DAC Select (C or D = HIGH, A or B = LOW).", 22 A0 (in) "Register/DAC Select (B or D = HIGH, A or C = LOW).", 23 ~{CS} (in) "Chip Select Input.", 24 NIC "Not Internally Connected. Pin has no internal connection to the device.", 25 VDD (power) "Positive Analog Supply Voltage, +5V nominal.", 26 VOUTD (out) "DAC D Voltage Output.", 27 VOUTC (out) "DAC C Voltage Output.", 28 VREFL (in) "Reference Input Voltage Low. Sets minimum output voltage for all DACs."

## DAC7625UB/1KG4
designator U?
12-Bit Quad Voltage Output DAC, -40 to 85 degC, 28-pin SOIC (DW28), Green (RoHS & no Sb/Br); Manufacturer: Texas Instruments; PartNumber: DAC7625UB/1KG4; DAC Channels: 4; DNL(Max)(+/-LSB): 1; Interface: Parallel; Power Consumption(Typ)(mW): 15; Resolution(Bits): 12; Settling Time(us): 10; SubFamily: Precision DAC (=<10MSPS); DatasheetVersion: SBAS083; PackageVersion: 4040000-6/G, 01/2011; PackageReference: DW28; PackageDescription: 28-Pin Plastic Small Outline, Body 17.90 x 7.50 mm, Pitch 1.27 mm; Supplier 1: Digi-Key; Supplier Part Number 1: DAC7625UB/1KG4-ND; Supplier 2: Mouser; Supplier Part Number 2: 595-DAC7625UB/1KG4; Eco-Plan: Green (RoHS & no Sb/Br); INL(Max)(+/-LSB): 1; Mounting Technology: Surface Mount; Code_JEDEC: MS-013; ComponentLink1Description: Manufacturer URL; ComponentLink1URL: http://www.ti.com/; ComponentLink2Description: Datasheet; ComponentLink2URL: http://www.ti.com/general/docs/lit/getliterature.tsp?genericPartNumber=DAC7625&fileType=pdf; ComponentLink3Description: Package Specification; ComponentLink3URL: http://www.ti.com/lit/ml/mpds175a/mpds175a.pdf
footprint TI-DW28_N (SOIC, 28-Leads, Body 17.9x7.5mm, Pitch 1.27mm, IPC Medium Density)
footprint TI-DW28_L (SOIC, 28-Leads, Body 17.9x7.5mm, Pitch 1.27mm, IPC High Density)
footprint TI-DW28_M (SOIC, 28-Leads, Body 17.9x7.5mm, Pitch 1.27mm, IPC Low Density)
pins: 1 VREFH (in) "Reference Input Voltage High. Sets maximum output voltage for all DACs.", 2 VOUTB (out) "DAC B Voltage Output.", 3 VOUTA (out) "DAC A Voltage Output.", 4 VSS (power) "Negative Analog Supply Voltage, 0V or -5V.", 5 GND (power) "Ground.", 6 ~{RESET} (in) "Asynchronous Reset Input. Sets DAC and input registers to either mid-scale (800H, DAC7624) or zero-scale (000H, DAC7625) when LOW.", 7 ~{LDAC} (in) "Load DAC Input. All DAC Registers are transparent when LOW.", 8 DB0 (LSB) (io) "Data Bit 0. Least significant bit of 12-bit word.", 9 DB1 (io) "Data Bit 1", 10 DB2 (io) "Data Bit 2", 11 DB3 (io) "Data Bit 3", 12 DB4 (io) "Data Bit 4", 13 DB5 (io) "Data Bit 5", 14 DB6 (io) "Data Bit 6", 15 DB7 (io) "Data Bit 7", 16 DB8 (io) "Data Bit 8", 17 DB9 (io) "Data Bit 9", 18 DB10 (io) "Data Bit 10", 19 DB11 (MSB) (io) "Data Bit 11. Most significant bit of 12-bit word.", 20 R/~{W} (in) "Read/Write Control Input (read = HIGH, write = LOW).", 21 A1 (in) "Register/DAC Select (C or D = HIGH, A or B = LOW).", 22 A0 (in) "Register/DAC Select (B or D = HIGH, A or C = LOW).", 23 ~{CS} (in) "Chip Select Input.", 24 NIC "Not Internally Connected. Pin has no internal connection to the device.", 25 VDD (power) "Positive Analog Supply Voltage, +5V nominal.", 26 VOUTD (out) "DAC D Voltage Output.", 27 VOUTC (out) "DAC C Voltage Output.", 28 VREFL (in) "Reference Input Voltage Low. Sets minimum output voltage for all DACs."

## DAC7625UBG4
designator U?
12-Bit Quad Voltage Output DAC, -40 to 85 degC, 28-pin SOIC (DW28), Green (RoHS & no Sb/Br); Manufacturer: Texas Instruments; PartNumber: DAC7625UBG4; DAC Channels: 4; DNL(Max)(+/-LSB): 1; Interface: Parallel; Power Consumption(Typ)(mW): 15; Resolution(Bits): 12; Settling Time(us): 10; SubFamily: Precision DAC (=<10MSPS); DatasheetVersion: SBAS083; PackageVersion: 4040000-6/G, 01/2011; PackageReference: DW28; PackageDescription: 28-Pin Plastic Small Outline, Body 17.90 x 7.50 mm, Pitch 1.27 mm; Supplier 1: Digi-Key; Supplier Part Number 1: DAC7625UBG4-ND; Supplier 2: Mouser; Supplier Part Number 2: 595-DAC7625UBG4; Eco-Plan: Green (RoHS & no Sb/Br); INL(Max)(+/-LSB): 1; Mounting Technology: Surface Mount; Code_JEDEC: MS-013; ComponentLink1Description: Manufacturer URL; ComponentLink1URL: http://www.ti.com/; ComponentLink2Description: Datasheet; ComponentLink2URL: http://www.ti.com/general/docs/lit/getliterature.tsp?genericPartNumber=DAC7625&fileType=pdf; ComponentLink3Description: Package Specification; ComponentLink3URL: http://www.ti.com/lit/ml/mpds175a/mpds175a.pdf
footprint TI-DW28_N (SOIC, 28-Leads, Body 17.9x7.5mm, Pitch 1.27mm, IPC Medium Density)
footprint TI-DW28_L (SOIC, 28-Leads, Body 17.9x7.5mm, Pitch 1.27mm, IPC High Density)
footprint TI-DW28_M (SOIC, 28-Leads, Body 17.9x7.5mm, Pitch 1.27mm, IPC Low Density)
pins: 1 VREFH (in) "Reference Input Voltage High. Sets maximum output voltage for all DACs.", 2 VOUTB (out) "DAC B Voltage Output.", 3 VOUTA (out) "DAC A Voltage Output.", 4 VSS (power) "Negative Analog Supply Voltage, 0V or -5V.", 5 GND (power) "Ground.", 6 ~{RESET} (in) "Asynchronous Reset Input. Sets DAC and input registers to either mid-scale (800H, DAC7624) or zero-scale (000H, DAC7625) when LOW.", 7 ~{LDAC} (in) "Load DAC Input. All DAC Registers are transparent when LOW.", 8 DB0 (LSB) (io) "Data Bit 0. Least significant bit of 12-bit word.", 9 DB1 (io) "Data Bit 1", 10 DB2 (io) "Data Bit 2", 11 DB3 (io) "Data Bit 3", 12 DB4 (io) "Data Bit 4", 13 DB5 (io) "Data Bit 5", 14 DB6 (io) "Data Bit 6", 15 DB7 (io) "Data Bit 7", 16 DB8 (io) "Data Bit 8", 17 DB9 (io) "Data Bit 9", 18 DB10 (io) "Data Bit 10", 19 DB11 (MSB) (io) "Data Bit 11. Most significant bit of 12-bit word.", 20 R/~{W} (in) "Read/Write Control Input (read = HIGH, write = LOW).", 21 A1 (in) "Register/DAC Select (C or D = HIGH, A or B = LOW).", 22 A0 (in) "Register/DAC Select (B or D = HIGH, A or C = LOW).", 23 ~{CS} (in) "Chip Select Input.", 24 NIC "Not Internally Connected. Pin has no internal connection to the device.", 25 VDD (power) "Positive Analog Supply Voltage, +5V nominal.", 26 VOUTD (out) "DAC D Voltage Output.", 27 VOUTC (out) "DAC C Voltage Output.", 28 VREFL (in) "Reference Input Voltage Low. Sets minimum output voltage for all DACs."

## DAC7625UG4
designator U?
12-Bit Quad Voltage Output DAC, -40 to 85 degC, 28-pin SOIC (DW28), Green (RoHS & no Sb/Br); Manufacturer: Texas Instruments; PartNumber: DAC7625UG4; DAC Channels: 4; DNL(Max)(+/-LSB): 1; INL(Max)(+/-LSB): 2; Interface: Parallel; Power Consumption(Typ)(mW): 15; Resolution(Bits): 12; Settling Time(us): 10; SubFamily: Precision DAC (=<10MSPS); DatasheetVersion: SBAS083; PackageVersion: 4040000-6/G, 01/2011; PackageReference: DW28; PackageDescription: 28-Pin Plastic Small Outline, Body 17.90 x 7.50 mm, Pitch 1.27 mm; Supplier 1: Digi-Key; Supplier Part Number 1: DAC7625UG4-ND; Supplier 2: Mouser; Supplier Part Number 2: 595-DAC7625UG4; Eco-Plan: Green (RoHS & no Sb/Br); Mounting Technology: Surface Mount; Code_JEDEC: MS-013; ComponentLink1Description: Manufacturer URL; ComponentLink1URL: http://www.ti.com/; ComponentLink2Description: Datasheet; ComponentLink2URL: http://www.ti.com/general/docs/lit/getliterature.tsp?genericPartNumber=DAC7625&fileType=pdf; ComponentLink3Description: Package Specification; ComponentLink3URL: http://www.ti.com/lit/ml/mpds175a/mpds175a.pdf
footprint TI-DW28_N (SOIC, 28-Leads, Body 17.9x7.5mm, Pitch 1.27mm, IPC Medium Density)
footprint TI-DW28_L (SOIC, 28-Leads, Body 17.9x7.5mm, Pitch 1.27mm, IPC High Density)
footprint TI-DW28_M (SOIC, 28-Leads, Body 17.9x7.5mm, Pitch 1.27mm, IPC Low Density)
pins: 1 VREFH (in) "Reference Input Voltage High. Sets maximum output voltage for all DACs.", 2 VOUTB (out) "DAC B Voltage Output.", 3 VOUTA (out) "DAC A Voltage Output.", 4 VSS (power) "Negative Analog Supply Voltage, 0V or -5V.", 5 GND (power) "Ground.", 6 ~{RESET} (in) "Asynchronous Reset Input. Sets DAC and input registers to either mid-scale (800H, DAC7624) or zero-scale (000H, DAC7625) when LOW.", 7 ~{LDAC} (in) "Load DAC Input. All DAC Registers are transparent when LOW.", 8 DB0 (LSB) (io) "Data Bit 0. Least significant bit of 12-bit word.", 9 DB1 (io) "Data Bit 1", 10 DB2 (io) "Data Bit 2", 11 DB3 (io) "Data Bit 3", 12 DB4 (io) "Data Bit 4", 13 DB5 (io) "Data Bit 5", 14 DB6 (io) "Data Bit 6", 15 DB7 (io) "Data Bit 7", 16 DB8 (io) "Data Bit 8", 17 DB9 (io) "Data Bit 9", 18 DB10 (io) "Data Bit 10", 19 DB11 (MSB) (io) "Data Bit 11. Most significant bit of 12-bit word.", 20 R/~{W} (in) "Read/Write Control Input (read = HIGH, write = LOW).", 21 A1 (in) "Register/DAC Select (C or D = HIGH, A or B = LOW).", 22 A0 (in) "Register/DAC Select (B or D = HIGH, A or C = LOW).", 23 ~{CS} (in) "Chip Select Input.", 24 NIC "Not Internally Connected. Pin has no internal connection to the device.", 25 VDD (power) "Positive Analog Supply Voltage, +5V nominal.", 26 VOUTD (out) "DAC D Voltage Output.", 27 VOUTC (out) "DAC C Voltage Output.", 28 VREFL (in) "Reference Input Voltage Low. Sets minimum output voltage for all DACs."

## DAC7631E
designator U?
Serial Input, 16-Bit, Voltage Output DAC, -40 to 85 degC, 20-pin SOP (DB20), Green (RoHS & no Sb/Br); Manufacturer: Texas Instruments; PartNumber: DAC7631E; DAC Channels: 1; DNL(Max)(+/-LSB): 3; INL(Max)(+/-LSB): 4; Interface: Serial SPI; Power Consumption(Typ)(mW): 1.8; Resolution(Bits): 16; Settling Time(us): 10; SubFamily: Precision DAC (=<10MSPS); DatasheetVersion: SBAS122; PackageVersion: 4040065/E, 12/2001; PackageReference: DB20; PackageDescription: 20-Pin Plastic Small Outline, Body 5.3 x 7.2 mm, Pitch 0.65 mm; Supplier 1: Digi-Key; Supplier Part Number 1: DAC7631E-ND; Supplier 2: Newark; Supplier Part Number 2: 96K4487; Supplier 3: Mouser; Supplier Part Number 3: 595-DAC7631E; Eco-Plan: Green (RoHS & no Sb/Br); Mounting Technology: Surface Mount; Code_JEDEC: MO-150; ComponentLink1Description: Manufacturer URL; ComponentLink1URL: http://www.ti.com/; ComponentLink2Description: Datasheet; ComponentLink2URL: http://www.ti.com/general/docs/lit/getliterature.tsp?genericPartNumber=DAC7631&fileType=pdf; ComponentLink3Description: Package Specification; ComponentLink3URL: http://www.ti.com/lit/ml/msso002e/msso002e.pdf
footprint TI-DB20_N (SOP, 20-Leads, Body 7.2x5.3mm, Pitch 0.65mm, IPC Medium Density)
footprint TI-DB20_L (SOP, 20-Leads, Body 7.2x5.3mm, Pitch 0.65mm, IPC High Density)
footprint TI-DB20_M (SOP, 20-Leads, Body 7.2x5.3mm, Pitch 0.65mm, IPC Low Density)
pins: 1 VREFH (in) "DAC Reference High Input", 2 VREFH SENSE (in) "DAC Reference Sense High Input", 3 VREFL (in) "DAC Reference Low Input", 4 VREFL SENSE (in) "DAC Reference Sense Low Input", 5 DGND (power) "Digital Ground", 6 VDD (power) "Logic Power Supply", 7 SDO (out) "Serial Data Output", 8 SDI (in) "Serial Data Input", 9 CLK (in) "Data Clock", 10 ~{CS} (in) "Chip Select, Active LOW", 11 LDAC (in) "DAC Register Load Control, Rising Edge Triggered.", 12 ~{LOAD} (in) "DAC Input Register Load Control, Active LOW.", 13 RST (in) "Reset, Rising Edge. Depending on the state of RSTSEL, the DAC Register is set to either midscale or zero.", 14 RSTSEL (in) "Reset Select. Determines the action of RST. If HIGH, a RST command will set the DAC register to midscale. If low, a RST command will set the DAC register to zero.", 15 NC "No Connection", 16 VOUT (out) "DAC Voltage Output", 17 VOUT SENSE (in) "DAC Output Amplifier Inverting Input, Used to Close the Feedback Loop at the Load.", 18 VSS (power) "Negative Power Supply", 19 AGND (power) "Analog Ground", 20 VCC (power) "Positive Power Supply"

## DAC7631E/1K
designator U?
Serial Input, 16-Bit, Voltage Output DAC, -40 to 85 degC, 20-pin SOP (DB20), Green (RoHS & no Sb/Br); Manufacturer: Texas Instruments; PartNumber: DAC7631E/1K; DAC Channels: 1; DNL(Max)(+/-LSB): 3; INL(Max)(+/-LSB): 4; Interface: Serial SPI; Power Consumption(Typ)(mW): 1.8; Resolution(Bits): 16; Settling Time(us): 10; SubFamily: Precision DAC (=<10MSPS); DatasheetVersion: SBAS122; PackageVersion: 4040065/E, 12/2001; PackageReference: DB20; PackageDescription: 20-Pin Plastic Small Outline, Body 5.3 x 7.2 mm, Pitch 0.65 mm; Supplier 1: Digi-Key; Supplier Part Number 1: DAC7631E/1K-ND; Supplier 2: Mouser; Supplier Part Number 2: 595-DAC7631E/1K; Eco-Plan: Green (RoHS & no Sb/Br); Mounting Technology: Surface Mount; Code_JEDEC: MO-150; ComponentLink1Description: Manufacturer URL; ComponentLink1URL: http://www.ti.com/; ComponentLink2Description: Datasheet; ComponentLink2URL: http://www.ti.com/general/docs/lit/getliterature.tsp?genericPartNumber=DAC7631&fileType=pdf; ComponentLink3Description: Package Specification; ComponentLink3URL: http://www.ti.com/lit/ml/msso002e/msso002e.pdf
footprint TI-DB20_N (SOP, 20-Leads, Body 7.2x5.3mm, Pitch 0.65mm, IPC Medium Density)
footprint TI-DB20_L (SOP, 20-Leads, Body 7.2x5.3mm, Pitch 0.65mm, IPC High Density)
footprint TI-DB20_M (SOP, 20-Leads, Body 7.2x5.3mm, Pitch 0.65mm, IPC Low Density)
pins: 1 VREFH (in) "DAC Reference High Input", 2 VREFH SENSE (in) "DAC Reference Sense High Input", 3 VREFL (in) "DAC Reference Low Input", 4 VREFL SENSE (in) "DAC Reference Sense Low Input", 5 DGND (power) "Digital Ground", 6 VDD (power) "Logic Power Supply", 7 SDO (out) "Serial Data Output", 8 SDI (in) "Serial Data Input", 9 CLK (in) "Data Clock", 10 ~{CS} (in) "Chip Select, Active LOW", 11 LDAC (in) "DAC Register Load Control, Rising Edge Triggered.", 12 ~{LOAD} (in) "DAC Input Register Load Control, Active LOW.", 13 RST (in) "Reset, Rising Edge. Depending on the state of RSTSEL, the DAC Register is set to either midscale or zero.", 14 RSTSEL (in) "Reset Select. Determines the action of RST. If HIGH, a RST command will set the DAC register to midscale. If low, a RST command will set the DAC register to zero.", 15 NC "No Connection", 16 VOUT (out) "DAC Voltage Output", 17 VOUT SENSE (in) "DAC Output Amplifier Inverting Input, Used to Close the Feedback Loop at the Load.", 18 VSS (power) "Negative Power Supply", 19 AGND (power) "Analog Ground", 20 VCC (power) "Positive Power Supply"

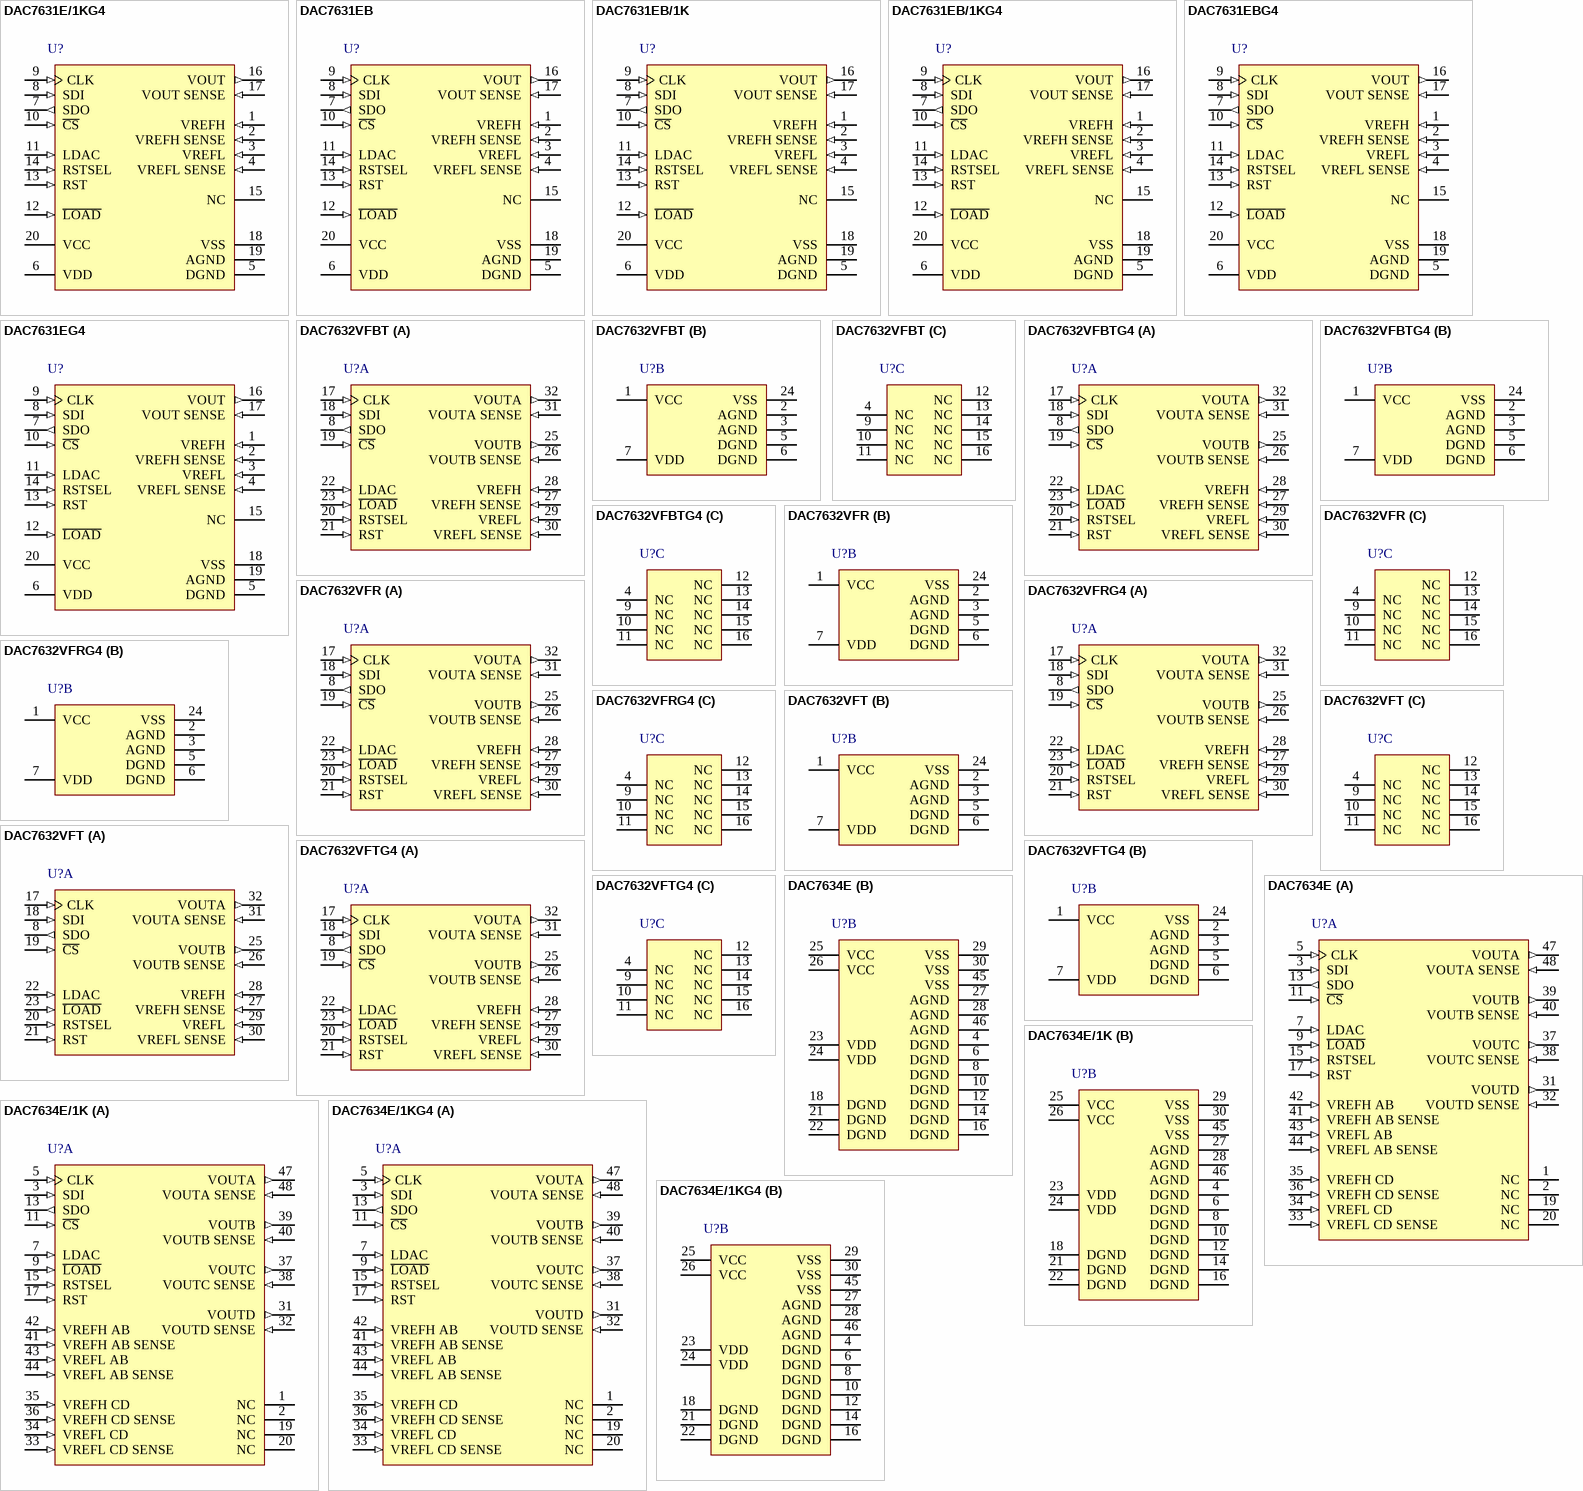
[diagram p30: symbols DAC7631E/1KG4 to DAC7634E/1KG4]